# Altium footprint library 7.接插件封装.PcbLib: 201 footprints (part 7 of 13)
Each footprint in its own frame and in the unit in brackets; x right, y up, seen from the top. Pads: shape width x height; smd on the part's side, far side on the other; paste and mask are expansions set on the pad; w line width, h text height; cw(c..) or ccw(c..) is an arc to the next point about the centre after c.
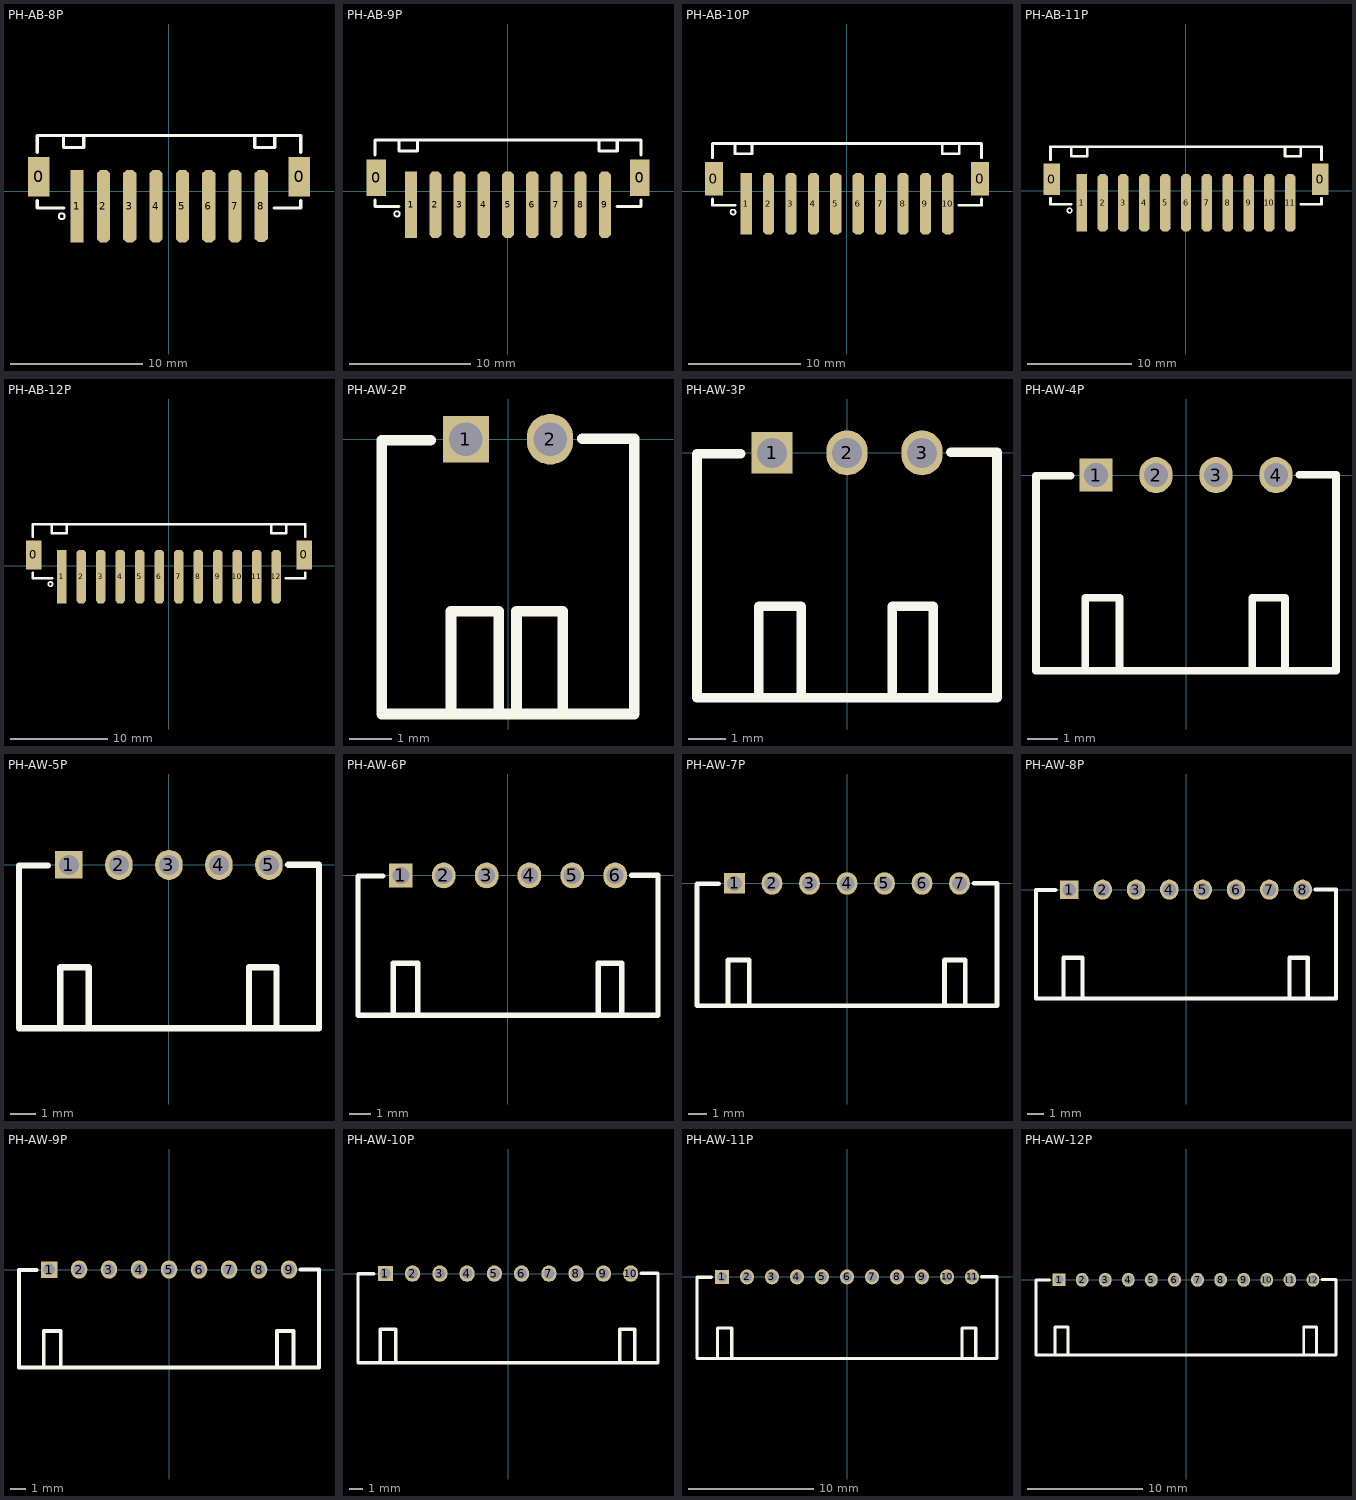
[diagram p6: the footprints below, top view; thin cyan lines are the x and y axes]

## PH-AB-8P [mm]
height 6
pads (10):
  rect 1.6x3 smd: 0(-9.89,1.123) 0(9.89,1.123)
  rect 1x5.5 smd: 1(-6.977,-1.123)
  oct 1x5.5 smd: 2(-4.977,-1.123) 3(-2.977,-1.123) 4(-0.977,-1.123) 5(1.023,-1.123) 6(3.023,-1.123) 7(5.023,-1.123) 8(7.008,-1.105)
Top Overlay:
  circle w0.15: c-8.147,-1.88 r0.224
  lines w0.254: -10,-0.702 -10,-1.261 -8,-1.261 ; -10,2.989 -10,4.248 10,4.248 10,2.989 ; -8.008,4.239 -8.008,3.339 -6.484,3.339 -6.484,4.239 ; 6.5,4.239 6.5,3.339 8.024,3.339 8.024,4.248 ; 8,-1.261 10,-1.261 10,-0.702

## PH-AB-9P [mm]
height 6
pads (11):
  rect 1.6x3 smd: 0(-10.89,1.118) 0(10.89,1.118)
  rect 1x5.5 smd: 1(-8,-1.118)
  oct 1x5.5 smd: 2(-6,-1.118) 3(-4,-1.118) 4(-2,-1.118) 5(0,-1.118) 6(2,-1.118) 7(4,-1.118) 8(6,-1.118) 9(8,-1.118)
Top Overlay:
  circle w0.15: c-9.17,-1.874 r0.224
  lines w0.254: -11,-0.707 -11,-1.266 -9,-1.266 ; -11,2.984 -11,4.243 11,4.243 ; -9.008,4.234 -9.008,3.334 -7.484,3.334 -7.484,4.234 ; 7.5,4.234 7.5,3.334 9.024,3.334 9.024,4.243 ; 9,-1.266 11,-1.266 11,-0.707 ; 11,2.984 11,4.243 ; 11,4.218 11,4.243

## PH-AB-10P [mm]
pads (12):
  rect 1.6x3 smd: 0(-11.89,1.118) 0(11.89,1.118)
  rect 1x5.5 smd: 1(-9,-1.118)
  oct 1x5.5 smd: 2(-7,-1.118) 3(-5,-1.118) 4(-3,-1.118) 5(-1,-1.118) 6(1,-1.118) 7(3,-1.118) 8(5,-1.118) 9(7,-1.118) 10(9,-1.118)
Top Overlay:
  circle w0.15: c-10.17,-1.874 r0.224
  lines w0.254: -12,-0.707 -12,-1.266 -10,-1.266 ; -12,2.984 -12,4.243 12,4.243 12,2.984 ; -10.008,4.234 -10.008,3.334 -8.484,3.334 -8.484,4.234 ; 8.5,4.234 8.5,3.334 10.024,3.334 10.024,4.243 ; 10,-1.266 12,-1.266 12,-0.707 ; 10,4.218 10,4.243

## PH-AB-11P [mm]
pads (13):
  rect 1.6x3 smd: 0(-12.89,1.118) 0(12.89,1.118)
  rect 1x5.5 smd: 1(-10,-1.118)
  oct 1x5.5 smd: 2(-8,-1.118) 3(-6,-1.118) 4(-4,-1.118) 5(-2,-1.118) 6(0,-1.118) 7(2,-1.118) 8(4,-1.118) 9(6,-1.118) 10(8,-1.118) 11(10,-1.118)
Top Overlay:
  circle w0.15: c-11.17,-1.874 r0.224
  lines w0.254: -13,-0.707 -13,-1.266 -11,-1.266 ; -13,2.984 -13,4.243 13,4.243 ; -11.008,4.234 -11.008,3.334 -9.484,3.334 -9.484,4.234 ; 9.5,4.234 9.5,3.334 11.024,3.334 11.024,4.243 ; 11,-1.266 13,-1.266 13,-0.707 ; 13,2.984 13,4.243 ; 13,4.218 13,4.243

## PH-AB-12P [mm]
pads (14):
  rect 1.6x3 smd: 0(-13.89,1.118) 0(13.89,1.118)
  rect 1x5.5 smd: 1(-11,-1.118)
  oct 1x5.5 smd: 2(-9,-1.118) 3(-7,-1.118) 4(-5,-1.118) 5(-3,-1.118) 6(-1,-1.118) 7(1,-1.118) 8(3,-1.118) 9(5,-1.118) 10(7,-1.118) 11(9,-1.118) 12(11,-1.118)
Top Overlay:
  circle w0.15: c-12.17,-1.874 r0.224
  lines w0.254: -14,-0.707 -14,-1.266 -12,-1.266 ; -14,2.984 -14,4.243 14,4.243 ; -12.008,4.234 -12.008,3.334 -10.484,3.334 -10.484,4.234 ; 10.5,4.234 10.5,3.334 12.024,3.334 12.024,4.243 ; 12,-1.266 14,-1.266 14,-0.707 ; 14,2.984 14,4.243 ; 14,4.218 14,4.243

## PH-AW-2P [mm]
pads (2):
  rect 1.1x1.1 hole 0.8: 1(-1,0)
  oval 1.1x1.2 hole 0.8: 2(1,0)
Top Overlay:
  lines w0.254: -3,-6.528 -3,-0.023 -1.839,-0.023 ; -2.997,-6.528 3,-6.528 3,0.012 1.77,0.012 ; -1.353,-6.485 -1.353,-4.089 -0.217,-4.089 -0.217,-6.477 ; 0.203,-6.46 0.203,-4.089 1.302,-4.089 1.302,-6.451

## PH-AW-3P [mm]
pads (3):
  rect 1.1x1.1 hole 0.8: 1(-2,0)
  oval 1.1x1.2 hole 0.8: 2(0,0) 3(2,0)
Top Overlay:
  lines w0.254: -2.839,-0.023 -4,-0.023 -4,-6.528 4,-6.528 4,0.012 2.77,0.012 ; -2.353,-6.485 -2.353,-4.089 -1.217,-4.089 -1.217,-6.477 ; 1.203,-6.46 1.203,-4.089 2.302,-4.089 2.302,-6.451

## PH-AW-4P [mm]
height 6
pads (4):
  rect 1.1x1.1 hole 0.8: 1(-3,0)
  oval 1.1x1.2 hole 0.8: 2(-1,0) 3(1,0) 4(3,0)
Top Overlay:
  lines w0.254: -3.839,-0.023 -5,-0.023 -5,-6.528 5,-6.528 5,0.012 3.77,0.012 ; -3.353,-6.485 -3.353,-4.089 -2.217,-4.089 -2.217,-6.477 ; 2.203,-6.46 2.203,-4.089 3.302,-4.089 3.302,-6.451

## PH-AW-5P [mm]
pads (5):
  rect 1.1x1.1 hole 0.8: 1(-4,0)
  oval 1.1x1.2 hole 0.8: 2(-2,0) 3(0,0) 4(2,0) 5(4,0)
Top Overlay:
  lines w0.254: -4.839,-0.023 -6,-0.023 -6,-6.528 6,-6.528 6,0.012 4.77,0.012 ; -4.353,-6.485 -4.353,-4.089 -3.217,-4.089 -3.217,-6.477 ; 3.203,-6.46 3.203,-4.089 4.302,-4.089 4.302,-6.451

## PH-AW-6P [mm]
pads (6):
  rect 1.1x1.1 hole 0.8: 1(-5,0)
  oval 1.1x1.2 hole 0.8: 2(-3,0) 3(-1,0) 4(1,0) 5(3,0) 6(5,0)
Top Overlay:
  lines w0.254: -5.839,-0.023 -7,-0.023 -7,-6.528 7,-6.528 7,0.012 5.77,0.012 ; -5.353,-6.485 -5.353,-4.089 -4.217,-4.089 -4.217,-6.477 ; 4.203,-6.46 4.203,-4.089 5.302,-4.089 5.302,-6.451

## PH-AW-7P [mm]
pads (7):
  rect 1.1x1.1 hole 0.8: 1(-6,0)
  oval 1.1x1.2 hole 0.8: 2(-4,0) 3(-2,0) 4(0,0) 5(2,0) 6(4,0) 7(6,0)
Top Overlay:
  lines w0.254: -6.839,-0.023 -8,-0.023 -8,-6.528 8,-6.528 8,0.012 6.77,0.012 ; -6.353,-6.485 -6.353,-4.089 -5.217,-4.089 -5.217,-6.477 ; 5.203,-6.46 5.203,-4.089 6.302,-4.089 6.302,-6.451

## PH-AW-8P [mm]
pads (8):
  rect 1.1x1.1 hole 0.8: 1(-7,0)
  oval 1.1x1.2 hole 0.8: 2(-5,0) 3(-3,0) 4(-1,0) 5(1,0) 6(3,0) 7(5,0) 8(7,0)
Top Overlay:
  lines w0.254: -7.839,-0.023 -9,-0.023 -9,-6.528 9,-6.528 9,0.012 7.77,0.012 ; -7.353,-6.485 -7.353,-4.089 -6.217,-4.089 -6.217,-6.477 ; 6.203,-6.46 6.203,-4.089 7.302,-4.089 7.302,-6.451

## PH-AW-9P [mm]
pads (9):
  rect 1.1x1.1 hole 0.8: 1(-8,0)
  oval 1.1x1.2 hole 0.8: 2(-6,0) 3(-4,0) 4(-2,0) 5(0,0) 6(2,0) 7(4,0) 8(6,0) 9(8,0)
Top Overlay:
  lines w0.254: -8.839,-0.023 -10,-0.023 -10,-6.528 10,-6.528 10,0.012 8.77,0.012 ; -8.353,-6.485 -8.353,-4.089 -7.217,-4.089 -7.217,-6.477 ; 7.203,-6.46 7.203,-4.089 8.302,-4.089 8.302,-6.451

## PH-AW-10P [mm]
pads (10):
  rect 1.1x1.1 hole 0.8: 1(-9,0)
  oval 1.1x1.2 hole 0.8: 2(-7,0) 3(-5,0) 4(-3,0) 5(-1,0) 6(1,0) 7(3,0) 8(5,0) 9(7,0) 10(9,0)
Top Overlay:
  lines w0.254: -9.839,-0.023 -11,-0.023 -11,-6.528 11,-6.528 11,0.012 9.77,0.012 ; -9.353,-6.485 -9.353,-4.089 -8.217,-4.089 -8.217,-6.477 ; 8.203,-6.46 8.203,-4.089 9.302,-4.089 9.302,-6.451

## PH-AW-11P [mm]
pads (11):
  rect 1.1x1.1 hole 0.8: 1(-10,0)
  oval 1.1x1.2 hole 0.8: 2(-8,0) 3(-6,0) 4(-4,0) 5(-2,0) 6(0,0) 7(2,0) 8(4,0) 9(6,0) 10(8,0) 11(10,0)
Top Overlay:
  lines w0.254: -10.839,-0.023 -12,-0.023 -12,-6.528 12,-6.528 12,0.012 10.77,0.012 ; -10.353,-6.485 -10.353,-4.089 -9.217,-4.089 -9.217,-6.477 ; 9.203,-6.46 9.203,-4.089 10.302,-4.089 10.302,-6.451

## PH-AW-12P [mm]
pads (12):
  rect 1.1x1.1 hole 0.8: 1(-11,0)
  oval 1.1x1.2 hole 0.8: 2(-9,0) 3(-7,0) 4(-5,0) 5(-3,0) 6(-1,0) 7(1,0) 8(3,0) 9(5,0) 10(7,0) 11(9,0) 12(11,0)
Top Overlay:
  lines w0.254: -11.839,-0.023 -13,-0.023 -13,-6.528 13,-6.528 13,0.012 11.77,0.012 ; -11.353,-6.485 -11.353,-4.089 -10.217,-4.089 -10.217,-6.477 ; 10.203,-6.46 10.203,-4.089 11.302,-4.089 11.302,-6.451